# Altium schematic symbol library SCH - MCU - SI LABS - SI LABS EFM32GG12B510F1024GL120 120-PIN BGA 7X7.SchLib: 1 symbol
Pins are listed as number, name and electrical type; pins without a type are passive.

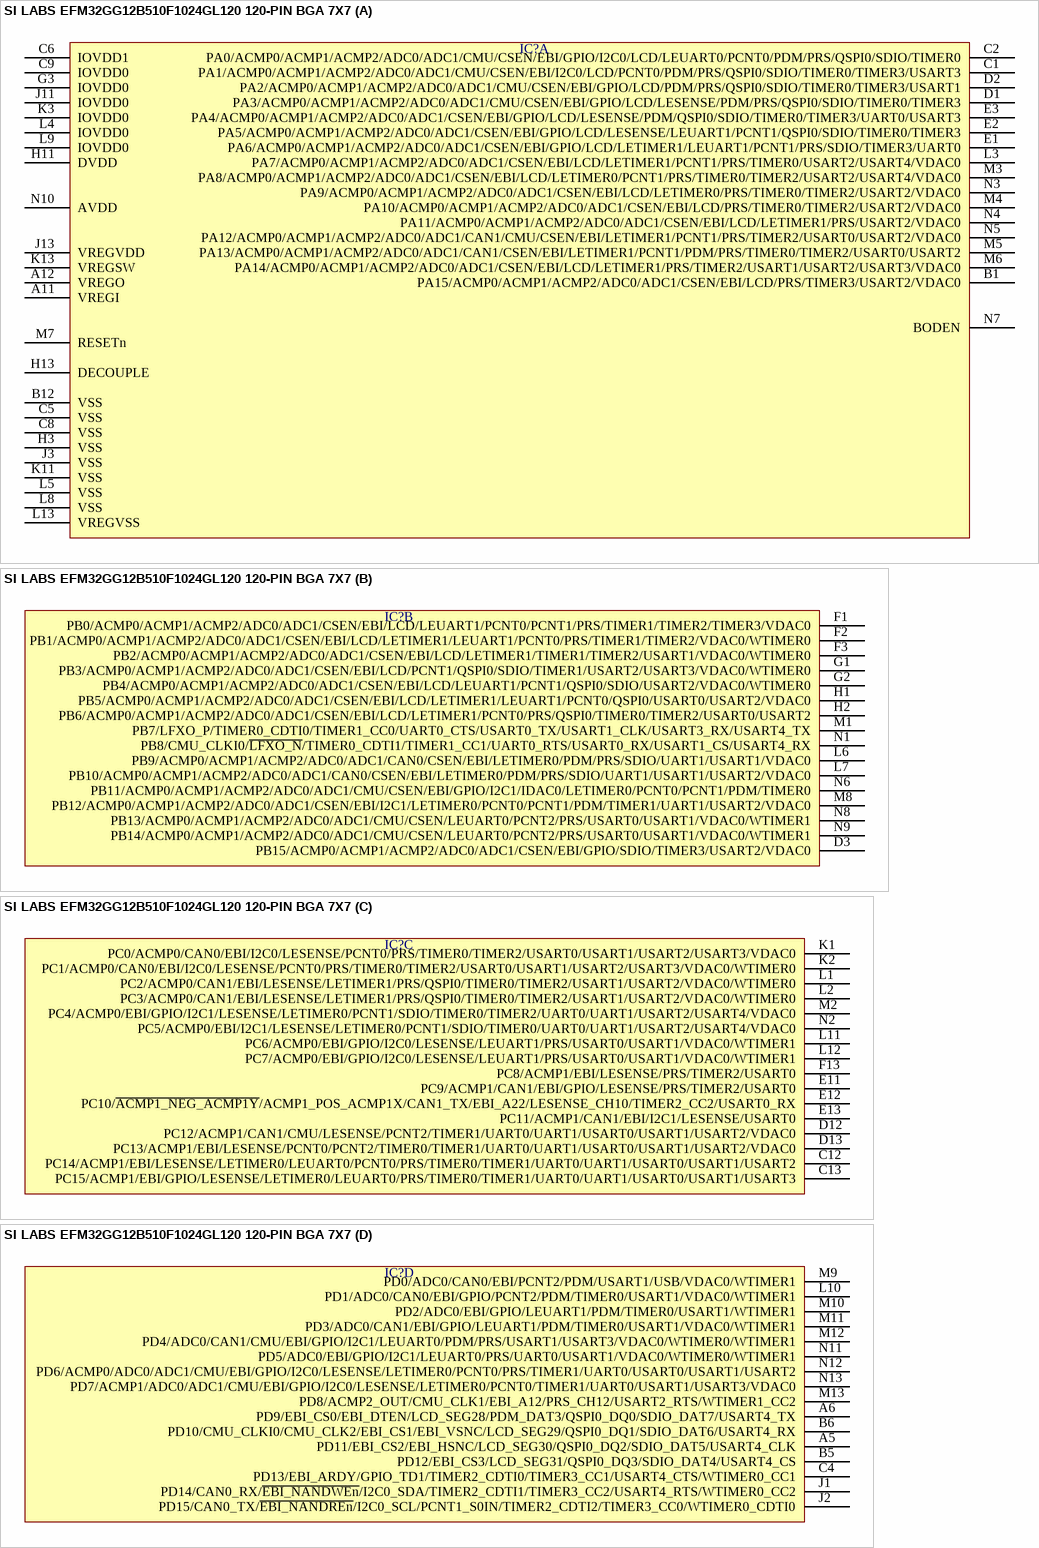
[diagram p0: symbol SI LABS EFM32GG12B510F1024GL120 120-PIN BGA 7X7]

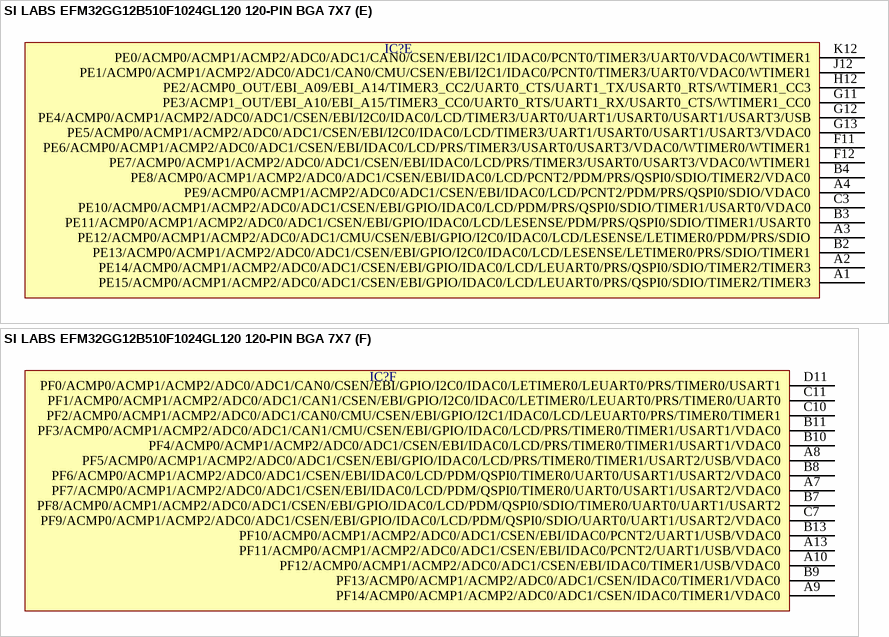
[diagram p1: symbol SI LABS EFM32GG12B510F1024GL120 120-PIN BGA 7X7]

## SI LABS EFM32GG12B510F1024GL120 120-PIN BGA 7X7
designator IC?  (value not drawn)
part A pins: A11 VREGI, A12 VREGO, B1 PA15/ACMP0/ACMP1/ACMP2/ADC0/ADC1/CSEN/EBI/LCD/PRS/TIMER3/USART2/VDAC0, B12 VSS, C1 PA1/ACMP0/ACMP1/ACMP2/ADC0/ADC1/CMU/CSEN/EBI/I2C0/LCD/PCNT0/PDM/PRS/QSPI0/SDIO/TIMER0/TIMER3/USART3, C2 PA0/ACMP0/ACMP1/ACMP2/ADC0/ADC1/CMU/CSEN/EBI/GPIO/I2C0/LCD/LEUART0/PCNT0/PDM/PRS/QSPI0/SDIO/TIMER0, C5 VSS, C6 IOVDD1, C8 VSS, C9 IOVDD0, D1 PA3/ACMP0/ACMP1/ACMP2/ADC0/ADC1/CMU/CSEN/EBI/GPIO/LCD/LESENSE/PDM/PRS/QSPI0/SDIO/TIMER0/TIMER3, D2 PA2/ACMP0/ACMP1/ACMP2/ADC0/ADC1/CMU/CSEN/EBI/GPIO/LCD/PDM/PRS/QSPI0/SDIO/TIMER0/TIMER3/USART1, E1 PA6/ACMP0/ACMP1/ACMP2/ADC0/ADC1/CSEN/EBI/GPIO/LCD/LETIMER1/LEUART1/PCNT1/PRS/SDIO/TIMER3/UART0, E2 PA5/ACMP0/ACMP1/ACMP2/ADC0/ADC1/CSEN/EBI/GPIO/LCD/LESENSE/LEUART1/PCNT1/QSPI0/SDIO/TIMER0/TIMER3, E3 PA4/ACMP0/ACMP1/ACMP2/ADC0/ADC1/CSEN/EBI/GPIO/LCD/LESENSE/PDM/QSPI0/SDIO/TIMER0/TIMER3/UART0/USART3, G3 IOVDD0, H3 VSS, H11 DVDD, H13 DECOUPLE, J3 VSS, J11 IOVDD0, J13 VREGVDD, K3 IOVDD0, K11 VSS, K13 VREGSW, L3 PA7/ACMP0/ACMP1/ACMP2/ADC0/ADC1/CSEN/EBI/LCD/LETIMER1/PCNT1/PRS/TIMER0/USART2/USART4/VDAC0, L4 IOVDD0, L5 VSS, L8 VSS, L9 IOVDD0, L13 VREGVSS, M3 PA8/ACMP0/ACMP1/ACMP2/ADC0/ADC1/CSEN/EBI/LCD/LETIMER0/PCNT1/PRS/TIMER0/TIMER2/USART2/USART4/VDAC0, M4 PA10/ACMP0/ACMP1/ACMP2/ADC0/ADC1/CSEN/EBI/LCD/PRS/TIMER0/TIMER2/USART2/VDAC0, M5 PA13/ACMP0/ACMP1/ACMP2/ADC0/ADC1/CAN1/CSEN/EBI/LETIMER1/PCNT1/PDM/PRS/TIMER0/TIMER2/USART0/USART2, M6 PA14/ACMP0/ACMP1/ACMP2/ADC0/ADC1/CSEN/EBI/LCD/LETIMER1/PRS/TIMER2/USART1/USART2/USART3/VDAC0, M7 RESETn, N3 PA9/ACMP0/ACMP1/ACMP2/ADC0/ADC1/CSEN/EBI/LCD/LETIMER0/PRS/TIMER0/TIMER2/USART2/VDAC0, N4 PA11/ACMP0/ACMP1/ACMP2/ADC0/ADC1/CSEN/EBI/LCD/LETIMER1/PRS/USART2/VDAC0, N5 PA12/ACMP0/ACMP1/ACMP2/ADC0/ADC1/CAN1/CMU/CSEN/EBI/LETIMER1/PCNT1/PRS/TIMER2/USART0/USART2/VDAC0, N7 BODEN, N10 AVDD
part B pins: D3 PB15/ACMP0/ACMP1/ACMP2/ADC0/ADC1/CSEN/EBI/GPIO/SDIO/TIMER3/USART2/VDAC0, F1 PB0/ACMP0/ACMP1/ACMP2/ADC0/ADC1/CSEN/EBI/LCD/LEUART1/PCNT0/PCNT1/PRS/TIMER1/TIMER2/TIMER3/VDAC0, F2 PB1/ACMP0/ACMP1/ACMP2/ADC0/ADC1/CSEN/EBI/LCD/LETIMER1/LEUART1/PCNT0/PRS/TIMER1/TIMER2/VDAC0/WTIMER0, F3 PB2/ACMP0/ACMP1/ACMP2/ADC0/ADC1/CSEN/EBI/LCD/LETIMER1/TIMER1/TIMER2/USART1/VDAC0/WTIMER0, G1 PB3/ACMP0/ACMP1/ACMP2/ADC0/ADC1/CSEN/EBI/LCD/PCNT1/QSPI0/SDIO/TIMER1/USART2/USART3/VDAC0/WTIMER0, G2 PB4/ACMP0/ACMP1/ACMP2/ADC0/ADC1/CSEN/EBI/LCD/LEUART1/PCNT1/QSPI0/SDIO/USART2/VDAC0/WTIMER0, H1 PB5/ACMP0/ACMP1/ACMP2/ADC0/ADC1/CSEN/EBI/LCD/LETIMER1/LEUART1/PCNT0/QSPI0/USART0/USART2/VDAC0, H2 PB6/ACMP0/ACMP1/ACMP2/ADC0/ADC1/CSEN/EBI/LCD/LETIMER1/PCNT0/PRS/QSPI0/TIMER0/TIMER2/USART0/USART2, L6 PB9/ACMP0/ACMP1/ACMP2/ADC0/ADC1/CAN0/CSEN/EBI/LETIMER0/PDM/PRS/SDIO/UART1/USART1/VDAC0, L7 PB10/ACMP0/ACMP1/ACMP2/ADC0/ADC1/CAN0/CSEN/EBI/LETIMER0/PDM/PRS/SDIO/UART1/USART1/USART2/VDAC0, M1 PB7/LFXO_P/TIMER0_CDTI0/TIMER1_CC0/UART0_CTS/USART0_TX/USART1_CLK/USART3_RX/USART4_TX, M8 PB12/ACMP0/ACMP1/ACMP2/ADC0/ADC1/CSEN/EBI/I2C1/LETIMER0/PCNT0/PCNT1/PDM/TIMER1/UART1/USART2/VDAC0, N1 PB8/CMU_CLKI0/~{LFXO_N}/TIMER0_CDTI1/TIMER1_CC1/UART0_RTS/USART0_RX/USART1_CS/USART4_RX, N6 PB11/ACMP0/ACMP1/ACMP2/ADC0/ADC1/CMU/CSEN/EBI/GPIO/I2C1/IDAC0/LETIMER0/PCNT0/PCNT1/PDM/TIMER0, N8 PB13/ACMP0/ACMP1/ACMP2/ADC0/ADC1/CMU/CSEN/LEUART0/PCNT2/PRS/USART0/USART1/VDAC0/WTIMER1, N9 PB14/ACMP0/ACMP1/ACMP2/ADC0/ADC1/CMU/CSEN/LEUART0/PCNT2/PRS/USART0/USART1/VDAC0/WTIMER1
part C pins: C12 PC14/ACMP1/EBI/LESENSE/LETIMER0/LEUART0/PCNT0/PRS/TIMER0/TIMER1/UART0/UART1/USART0/USART1/USART2, C13 PC15/ACMP1/EBI/GPIO/LESENSE/LETIMER0/LEUART0/PRS/TIMER0/TIMER1/UART0/UART1/USART0/USART1/USART3, D12 PC12/ACMP1/CAN1/CMU/LESENSE/PCNT2/TIMER1/UART0/UART1/USART0/USART1/USART2/VDAC0, D13 PC13/ACMP1/EBI/LESENSE/PCNT0/PCNT2/TIMER0/TIMER1/UART0/UART1/USART0/USART1/USART2/VDAC0, E11 PC9/ACMP1/CAN1/EBI/GPIO/LESENSE/PRS/TIMER2/USART0, E12 PC10/~{ACMP1_NEG_ACMP1Y}/ACMP1_POS_ACMP1X/CAN1_TX/EBI_A22/LESENSE_CH10/TIMER2_CC2/USART0_RX, E13 PC11/ACMP1/CAN1/EBI/I2C1/LESENSE/USART0, F13 PC8/ACMP1/EBI/LESENSE/PRS/TIMER2/USART0, K1 PC0/ACMP0/CAN0/EBI/I2C0/LESENSE/PCNT0/PRS/TIMER0/TIMER2/USART0/USART1/USART2/USART3/VDAC0, K2 PC1/ACMP0/CAN0/EBI/I2C0/LESENSE/PCNT0/PRS/TIMER0/TIMER2/USART0/USART1/USART2/USART3/VDAC0/WTIMER0, L1 PC2/ACMP0/CAN1/EBI/LESENSE/LETIMER1/PRS/QSPI0/TIMER0/TIMER2/USART1/USART2/VDAC0/WTIMER0, L2 PC3/ACMP0/CAN1/EBI/LESENSE/LETIMER1/PRS/QSPI0/TIMER0/TIMER2/USART1/USART2/VDAC0/WTIMER0, L11 PC6/ACMP0/EBI/GPIO/I2C0/LESENSE/LEUART1/PRS/USART0/USART1/VDAC0/WTIMER1, L12 PC7/ACMP0/EBI/GPIO/I2C0/LESENSE/LEUART1/PRS/USART0/USART1/VDAC0/WTIMER1, M2 PC4/ACMP0/EBI/GPIO/I2C1/LESENSE/LETIMER0/PCNT1/SDIO/TIMER0/TIMER2/UART0/UART1/USART2/USART4/VDAC0, N2 PC5/ACMP0/EBI/I2C1/LESENSE/LETIMER0/PCNT1/SDIO/TIMER0/UART0/UART1/USART2/USART4/VDAC0
part D pins: A5 PD11/EBI_CS2/EBI_HSNC/LCD_SEG30/QSPI0_DQ2/SDIO_DAT5/USART4_CLK, A6 PD9/EBI_CS0/EBI_DTEN/LCD_SEG28/PDM_DAT3/QSPI0_DQ0/SDIO_DAT7/USART4_TX, B5 PD12/EBI_CS3/LCD_SEG31/QSPI0_DQ3/SDIO_DAT4/USART4_CS, B6 PD10/CMU_CLKI0/CMU_CLK2/EBI_CS1/EBI_VSNC/LCD_SEG29/QSPI0_DQ1/SDIO_DAT6/USART4_RX, C4 PD13/EBI_ARDY/GPIO_TD1/TIMER2_CDTI0/TIMER3_CC1/USART4_CTS/WTIMER0_CC1, J1 PD14/CAN0_RX/~{EBI_NANDWEn}/I2C0_SDA/TIMER2_CDTI1/TIMER3_CC2/USART4_RTS/WTIMER0_CC2, J2 PD15/CAN0_TX/~{EBI_NANDREn}/I2C0_SCL/PCNT1_S0IN/TIMER2_CDTI2/TIMER3_CC0/WTIMER0_CDTI0, L10 PD1/ADC0/CAN0/EBI/GPIO/PCNT2/PDM/TIMER0/USART1/VDAC0/WTIMER1, M9 PD0/ADC0/CAN0/EBI/PCNT2/PDM/USART1/USB/VDAC0/WTIMER1, M10 PD2/ADC0/EBI/GPIO/LEUART1/PDM/TIMER0/USART1/WTIMER1, M11 PD3/ADC0/CAN1/EBI/GPIO/LEUART1/PDM/TIMER0/USART1/VDAC0/WTIMER1, M12 PD4/ADC0/CAN1/CMU/EBI/GPIO/I2C1/LEUART0/PDM/PRS/USART1/USART3/VDAC0/WTIMER0/WTIMER1, M13 PD8/ACMP2_OUT/CMU_CLK1/EBI_A12/PRS_CH12/USART2_RTS/WTIMER1_CC2, N11 PD5/ADC0/EBI/GPIO/I2C1/LEUART0/PRS/UART0/USART1/VDAC0/WTIMER0/WTIMER1, N12 PD6/ACMP0/ADC0/ADC1/CMU/EBI/GPIO/I2C0/LESENSE/LETIMER0/PCNT0/PRS/TIMER1/UART0/USART0/USART1/USART2, N13 PD7/ACMP1/ADC0/ADC1/CMU/EBI/GPIO/I2C0/LESENSE/LETIMER0/PCNT0/TIMER1/UART0/USART1/USART3/VDAC0
part E pins: A1 PE15/ACMP0/ACMP1/ACMP2/ADC0/ADC1/CSEN/EBI/GPIO/IDAC0/LCD/LEUART0/PRS/QSPI0/SDIO/TIMER2/TIMER3, A2 PE14/ACMP0/ACMP1/ACMP2/ADC0/ADC1/CSEN/EBI/GPIO/IDAC0/LCD/LEUART0/PRS/QSPI0/SDIO/TIMER2/TIMER3, A3 PE12/ACMP0/ACMP1/ACMP2/ADC0/ADC1/CMU/CSEN/EBI/GPIO/I2C0/IDAC0/LCD/LESENSE/LETIMER0/PDM/PRS/SDIO, A4 PE9/ACMP0/ACMP1/ACMP2/ADC0/ADC1/CSEN/EBI/IDAC0/LCD/PCNT2/PDM/PRS/QSPI0/SDIO/VDAC0, B2 PE13/ACMP0/ACMP1/ACMP2/ADC0/ADC1/CSEN/EBI/GPIO/I2C0/IDAC0/LCD/LESENSE/LETIMER0/PRS/SDIO/TIMER1, B3 PE11/ACMP0/ACMP1/ACMP2/ADC0/ADC1/CSEN/EBI/GPIO/IDAC0/LCD/LESENSE/PDM/PRS/QSPI0/SDIO/TIMER1/USART0, B4 PE8/ACMP0/ACMP1/ACMP2/ADC0/ADC1/CSEN/EBI/IDAC0/LCD/PCNT2/PDM/PRS/QSPI0/SDIO/TIMER2/VDAC0, C3 PE10/ACMP0/ACMP1/ACMP2/ADC0/ADC1/CSEN/EBI/GPIO/IDAC0/LCD/PDM/PRS/QSPI0/SDIO/TIMER1/USART0/VDAC0, F11 PE6/ACMP0/ACMP1/ACMP2/ADC0/ADC1/CSEN/EBI/IDAC0/LCD/PRS/TIMER3/USART0/USART3/VDAC0/WTIMER0/WTIMER1, F12 PE7/ACMP0/ACMP1/ACMP2/ADC0/ADC1/CSEN/EBI/IDAC0/LCD/PRS/TIMER3/USART0/USART3/VDAC0/WTIMER1, G11 PE3/ACMP1_OUT/EBI_A10/EBI_A15/TIMER3_CC0/UART0_RTS/UART1_RX/USART0_CTS/WTIMER1_CC0, G12 PE4/ACMP0/ACMP1/ACMP2/ADC0/ADC1/CSEN/EBI/I2C0/IDAC0/LCD/TIMER3/UART0/UART1/USART0/USART1/USART3/USB, G13 PE5/ACMP0/ACMP1/ACMP2/ADC0/ADC1/CSEN/EBI/I2C0/IDAC0/LCD/TIMER3/UART1/USART0/USART1/USART3/VDAC0, H12 PE2/ACMP0_OUT/EBI_A09/EBI_A14/TIMER3_CC2/UART0_CTS/UART1_TX/USART0_RTS/WTIMER1_CC3, J12 PE1/ACMP0/ACMP1/ACMP2/ADC0/ADC1/CAN0/CMU/CSEN/EBI/I2C1/IDAC0/PCNT0/TIMER3/UART0/VDAC0/WTIMER1, K12 PE0/ACMP0/ACMP1/ACMP2/ADC0/ADC1/CAN0/CSEN/EBI/I2C1/IDAC0/PCNT0/TIMER3/UART0/VDAC0/WTIMER1
part F pins: A7 PF7/ACMP0/ACMP1/ACMP2/ADC0/ADC1/CSEN/EBI/IDAC0/LCD/PDM/QSPI0/TIMER0/UART0/USART1/USART2/VDAC0, A8 PF5/ACMP0/ACMP1/ACMP2/ADC0/ADC1/CSEN/EBI/GPIO/IDAC0/LCD/PRS/TIMER0/TIMER1/USART2/USB/VDAC0, A9 PF14/ACMP0/ACMP1/ACMP2/ADC0/ADC1/CSEN/IDAC0/TIMER1/VDAC0, A10 PF12/ACMP0/ACMP1/ACMP2/ADC0/ADC1/CSEN/EBI/IDAC0/TIMER1/USB/VDAC0, A13 PF11/ACMP0/ACMP1/ACMP2/ADC0/ADC1/CSEN/EBI/IDAC0/PCNT2/UART1/USB/VDAC0, B7 PF8/ACMP0/ACMP1/ACMP2/ADC0/ADC1/CSEN/EBI/GPIO/IDAC0/LCD/PDM/QSPI0/SDIO/TIMER0/UART0/UART1/USART2, B8 PF6/ACMP0/ACMP1/ACMP2/ADC0/ADC1/CSEN/EBI/IDAC0/LCD/PDM/QSPI0/TIMER0/UART0/USART1/USART2/VDAC0, B9 PF13/ACMP0/ACMP1/ACMP2/ADC0/ADC1/CSEN/IDAC0/TIMER1/VDAC0, B10 PF4/ACMP0/ACMP1/ACMP2/ADC0/ADC1/CSEN/EBI/IDAC0/LCD/PRS/TIMER0/TIMER1/USART1/VDAC0, B11 PF3/ACMP0/ACMP1/ACMP2/ADC0/ADC1/CAN1/CMU/CSEN/EBI/GPIO/IDAC0/LCD/PRS/TIMER0/TIMER1/USART1/VDAC0, B13 PF10/ACMP0/ACMP1/ACMP2/ADC0/ADC1/CSEN/EBI/IDAC0/PCNT2/UART1/USB/VDAC0, C7 PF9/ACMP0/ACMP1/ACMP2/ADC0/ADC1/CSEN/EBI/GPIO/IDAC0/LCD/PDM/QSPI0/SDIO/UART0/UART1/USART2/VDAC0, C10 PF2/ACMP0/ACMP1/ACMP2/ADC0/ADC1/CAN0/CMU/CSEN/EBI/GPIO/I2C1/IDAC0/LCD/LEUART0/PRS/TIMER0/TIMER1, C11 PF1/ACMP0/ACMP1/ACMP2/ADC0/ADC1/CAN1/CSEN/EBI/GPIO/I2C0/IDAC0/LETIMER0/LEUART0/PRS/TIMER0/UART0, D11 PF0/ACMP0/ACMP1/ACMP2/ADC0/ADC1/CAN0/CSEN/EBI/GPIO/I2C0/IDAC0/LETIMER0/LEUART0/PRS/TIMER0/USART1